# EAGLE library part DRV8825_POLOLU (library patrick_custom)
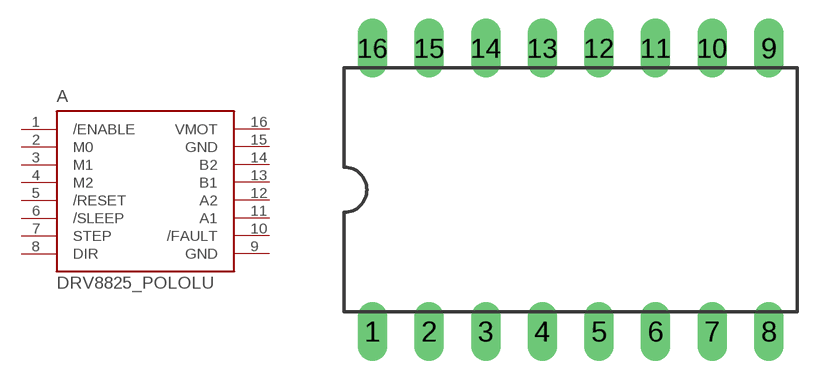
[diagram p5: symbol with the pads of DIP-16_0600; footprint DIP-16_0600]

Designator prefix A

## DRV8825_POLOLU  [DIP-16_0600]
1  /ENABLE
2  M0
3  M1
4  M2
5  /RESET
6  /SLEEP
7  STEP
8  DIR
9  GND
10  /FAULT
11  A1
12  A2
13  B1
14  B2
15  GND
16  VMOT

## Footprint DIP-16_0600 (pad centres in mm)
drill 0.813 long: 1 -8.89,-6.35; 2 -6.35,-6.35; 3 -3.81,-6.35; 4 -1.27,-6.35; 5 1.27,-6.35; 6 3.81,-6.35; 7 6.35,-6.35; 8 8.89,-6.35; 9 8.89,6.35; 10 6.35,6.35; 11 3.81,6.35; 12 1.27,6.35; 13 -1.27,6.35; 14 -3.81,6.35; 15 -6.35,6.35; 16 -8.89,6.35